# Altium footprint library FootPrintLib_2.PcbLib: 173 footprints (part 2 of 11)
Each footprint in its own frame and in the unit in brackets; x right, y up, seen from the top. Pads: shape width x height; smd on the part's side, far side on the other; paste and mask are expansions set on the pad; w line width, h text height; cw(c..) or ccw(c..) is an arc to the next point about the centre after c.
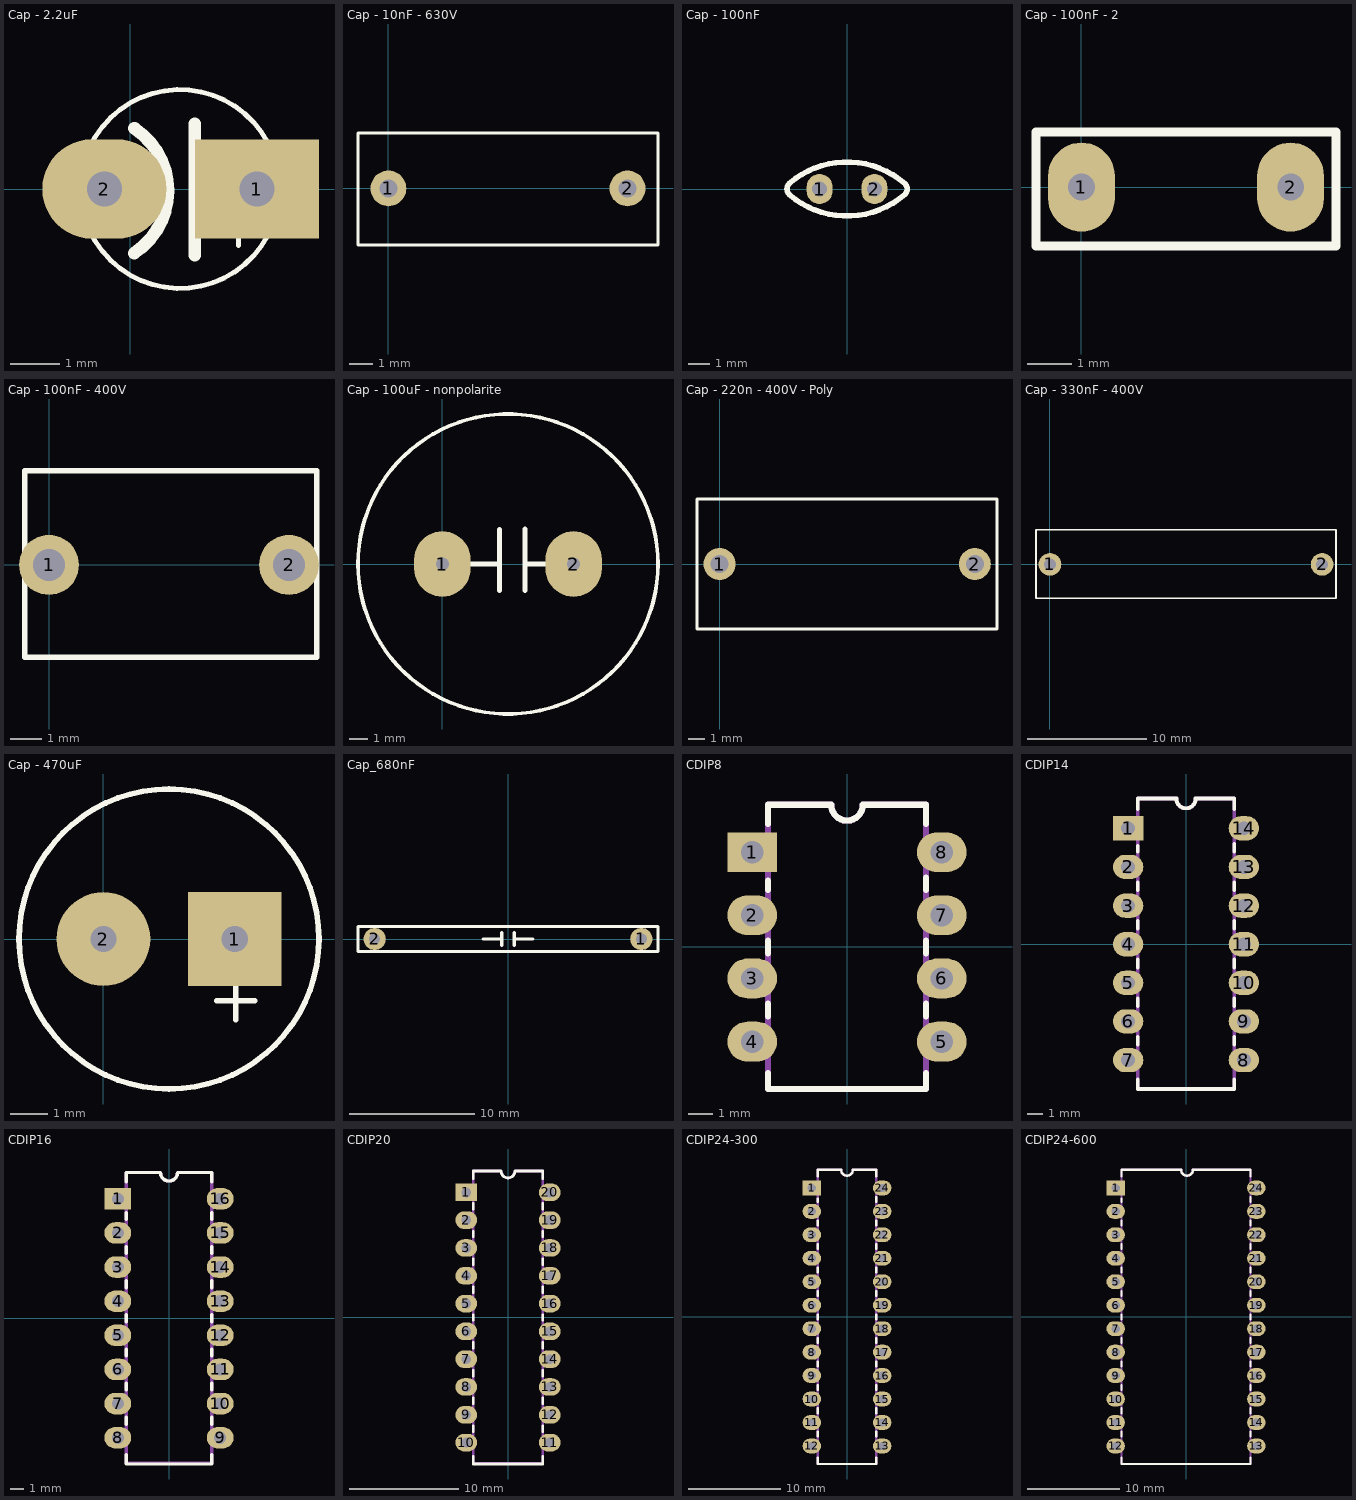
[diagram p1: the footprints below, top view; thin cyan lines are the x and y axes]

## Cap - 2.2uF [mm]
pads (2):
  rect 2.5x2 hole 0.7: 1(2.55,0)
  oval 2.5x2 hole 0.7: 2(-0.52,0)
Top Overlay:
  circle w0.1: c1,0 r2
  lines w0.1: 1.654,-0.72 2.67,-0.72 ; 2.18,-1.14 2.18,-0.29
  lines w0.254: -0.7,0 0.65,0 ; 0.08,-1.29 ccw(c-0.738,-0.033) 0.088,1.22 ; 1.3,-1.33 1.3,1.31 ; 1.38,0 2.72,0

## Cap - 10nF - 630V [mil] "Body: 13'mm, Pin: 10'mm"
pads (2):
  round 60 hole 30: 1(0,0) 2(400,0)
Top Overlay:
  lines w5: -50.97,-94.52 -50.97,92.52 451,92.52 451,-94.52 -50.97,-94.52
3D body "Cap 10n - 630V Poly_2009.STEP": height 480, standoff -68.11, extent -50.97,-94.52 451,92.52

## Cap - 100nF [mm]
pads (2):
  oval 1.2x1.4 hole 0.7: 1(-1.27,0) 2(1.27,0)
Top Overlay:
  lines w0.254: -2.688,-0.249 ccw(c0,2.849) 2.694,-0.243 ; -2.688,0.249 cw(c0,-2.849) 2.694,0.243 ; -2.682,-0.242 cw(c-2.44,0) -2.682,0.242 ; 2.692,-0.242 ccw(c2.451,0) 2.692,0.242
3D body "Cap 100n.STEP": height 6.92, standoff -1, extent -2.919,-0.864 2.919,0.833

## Cap - 100nF - 2 [mm] "7'mm"
height 5
pads (2):
  oval 1.5x2 hole 0.6: 1(0,0) 2(4.7,0)
Top Overlay:
  lines w0.2: -1.021,-1.328 5.72,-1.328 5.72,1.242 -1.021,1.242 -1.021,-1.328
3D body "cap.STEP": height 6.84, standoff -1.46, extent -0.75,-1.2 5.55,1.2

## Cap - 100nF - 400V [mil] "Body: 9'mm, Pin: 7.5'mm"
pads (2):
  round 75 hole 40: 1(0,0) 2(300,0)
Top Overlay:
  lines w7: -30.5,-115.39 -30.5,117.65 334.5,117.65 334.5,-115.39 -30.5,-115.39
3D body "Cap 100n - 400V Poly.STEP": height 460, standoff -88.11, extent -30.5,-115.39 334.5,117.65

## Cap - 100uF - nonpolarite [mm]
pads (2):
  oval 3x3.5 hole 0.7: 1(0,0) 2(7,0)
Top Overlay:
  circle w0.2: c3.5,0 r8
  lines w0.254: 0,0 1.87,0 3.04,0 3.05,-0.01 ; 3.05,-1.43 3.05,1.84 ; 4.41,-1.43 4.41,1.86 4.41,0.1 4.51,0 7,0

## Cap - 220n - 400V - Poly [mil] "Body: 18'mm, Pin: 15.5'mm"
pads (2):
  round 75 hole 42: 1(0,0) 2(600,0)
Top Overlay:
  lines w7: -53,-152.52 -53,152.52 652,152.52 652,-152.52 -53,-152.52
3D body "Cap 220n - 400V Poly.STEP": height 508.74, standoff -39.37, extent -53,-152.52 652,152.52

## Cap - 330nF - 400V [mil] "Body: 25'mm, Pin: 23'mm"
pads (2):
  round 75 hole 40: 1(0,0) 2(900,0)
Top Overlay:
  lines w5: -46.26,-112.21 945.87,-112.21 945.87,114.21 -46.26,114.21 -46.26,-112.21
3D body "Cap 330n - 400V Poly_2009.STEP": height 430, standoff -118.11, extent -18.04,-112.21 917,114.21

## Cap - 470uF [mm]
pads (2):
  rect 2.5x2.5 hole 0.7: 1(3.5,0)
  round 2.5 hole 0.7: 2(0,0)
Top Overlay:
  circle w0.15: c1.75,0 r4
  lines w0.15: 3.022,-1.65 4.038,-1.65 ; 3.53,-2.158 3.53,-1.142

## Cap_680nF [mil]
height 393.7
pads (2):
  round 70 hole 35: 1(420,0) 2(-420,0)
Top Overlay:
  lines w10: -78.74,0 -19.68,0 ; -19.68,-19.68 -19.68,19.68 ; 19.68,-19.68 19.68,19.68 ; 19.68,0 78.74,0 ; -472.44,-39.37 472.44,-39.37 472.44,39.37 -472.44,39.37 -472.44,-39.37
3D body "680nF.STEP": height 497.8, standoff -33.7, extent -472.13,-13.39 472.76,683.32

## CDIP8 [mm] "8-Pin Ceramic DIP (DD8) NARROW_(300mil width) - 100mil pitch"
height 5.08
pads (8):
  rect 2x1.6 hole 0.9: 1(-3.81,3.81)
  oval 2x1.6 hole 0.9: 2(-3.81,1.27) 3(-3.81,-1.27) 4(-3.81,-3.81) 5(3.81,-3.81) 6(3.81,-1.27) 7(3.81,1.27) 8(3.81,3.81)
Top Overlay:
  lines w0.254: -3.175,-5.08 -3.175,-5.715 3.175,-5.715 3.175,-5.08 ; -3.175,-2.794 -3.175,-2.286 ; -3.175,-0.254 -3.175,0.254 ; -3.175,2.286 -3.175,2.667 ; -3.175,4.953 -3.175,5.715 -0.635,5.715 ccw(c0,5.715) 0.635,5.715 3.175,5.715 3.175,4.953 ; 3.175,-2.794 3.175,-2.286 ; 3.175,-0.254 3.175,0.254 ; 3.175,2.286 3.175,2.794
Mechanical 1:
  lines w0.254: -3.175,-5.715 -3.175,5.715 -0.635,5.715 ccw(c0,5.715) 0.635,5.715 3.175,5.715 3.175,-5.715 -3.175,-5.715
3D body "DDIP08-300.STEP": height 4, standoff -2, extent -3.935,-5.715 3.935,5.715

## CDIP14 [mm] "14-Pin Ceramic DIP (DD14) NARROW_(300mil width) - 100mil pitch"
height 5.08
pads (14):
  rect 2x1.6 hole 0.9: 1(-3.81,7.62)
  oval 2x1.6 hole 0.9: 2(-3.81,5.08) 3(-3.81,2.54) 4(-3.81,0) 5(-3.81,-2.54) 6(-3.81,-5.08) 7(-3.81,-7.62) 8(3.81,-7.62) 9(3.81,-5.08) 10(3.81,-2.54) 11(3.81,0) 12(3.81,2.54) 13(3.81,5.08) 14(3.81,7.62)
Top Overlay:
  lines w0.254: -3.175,-8.89 -3.175,-9.525 3.175,-9.525 3.175,-8.89 ; -3.175,-6.604 -3.175,-6.096 ; -3.175,-4.064 -3.175,-3.556 ; -3.175,-1.524 -3.175,-1.016 ; -3.175,1.016 -3.175,1.524 ; -3.175,3.556 -3.175,4.064 ; -3.175,6.096 -3.175,6.477 ; -3.175,8.89 -3.175,9.576 -0.635,9.576 ccw(c0,9.576) 0.635,9.576 3.175,9.576 3.175,8.89 ; 3.175,-6.604 3.175,-6.096 ; 3.175,-4.064 3.175,-3.556 ; 3.175,-1.524 3.175,-1.016 ; 3.175,1.016 3.175,1.524 ; 3.175,3.556 3.175,4.064 ; 3.175,6.096 3.175,6.604
Mechanical 1:
  lines w0.254: -3.175,-9.525 3.175,-9.525 3.175,9.576 0.635,9.576 cw(c0,9.576) -0.635,9.576 -3.175,9.576 -3.175,-9.525
3D body "DDIP14-300.STEP": height 4, standoff -2, extent -3.935,-9.525 3.935,9.525

## CDIP16 [mm] "16-Pin Ceramic DIP (DD16) NARROW_(300mil width) - 100mil pitch"
height 5.08
pads (16):
  rect 2x1.6 hole 0.9: 1(-3.81,8.89)
  oval 2x1.6 hole 0.9: 2(-3.81,6.35) 3(-3.81,3.81) 4(-3.81,1.27) 5(-3.81,-1.27) 6(-3.81,-3.81) 7(-3.81,-6.35) 8(-3.81,-8.89) 9(3.81,-8.89) 10(3.81,-6.35) 11(3.81,-3.81) 12(3.81,-1.27) 13(3.81,1.27) 14(3.81,3.81) 15(3.81,6.35) 16(3.81,8.89)
Top Overlay:
  lines w0.254: -3.175,-10.16 -3.175,-10.846 3.175,-10.846 3.175,-10.16 ; -3.175,-7.874 -3.175,-7.366 ; -3.175,-5.334 -3.175,-4.826 ; -3.175,-2.794 -3.175,-2.286 ; -3.175,-0.254 -3.175,0.254 ; -3.175,2.286 -3.175,2.794 ; -3.175,4.826 -3.175,5.334 ; -3.175,7.366 -3.175,7.874 ; -3.175,10.16 -3.175,10.846 -0.635,10.846 ccw(c0,10.846) 0.635,10.846 3.175,10.846 3.175,10.16 ; 3.175,-7.874 3.175,-7.366 ; 3.175,-5.334 3.175,-4.826 ; 3.175,-2.794 3.175,-2.286 ; 3.175,-0.254 3.175,0.254 ; 3.175,2.286 3.175,2.794 ; 3.175,4.826 3.175,5.334 ; 3.175,7.366 3.175,7.874
Mechanical 1:
  lines w0.254: -3.175,-10.795 -3.175,10.846 -0.635,10.846 ccw(c0,10.846) 0.635,10.846 3.175,10.846 3.175,-10.795 -3.175,-10.795
3D body "DDIP16-300.STEP": height 4, standoff -2, extent -3.935,-10.795 3.935,10.795

## CDIP20 [mm] "20-Pin Ceramic DIP (DD20) NARROW_(300mil width) - 100mil pitch"
height 5.08
pads (20):
  rect 2x1.6 hole 0.9: 1(-3.81,11.43)
  oval 2x1.6 hole 0.9: 2(-3.81,8.89) 3(-3.81,6.35) 4(-3.81,3.81) 5(-3.81,1.27) 6(-3.81,-1.27) 7(-3.81,-3.81) 8(-3.81,-6.35) 9(-3.81,-8.89) 10(-3.81,-11.43) 11(3.81,-11.43) 12(3.81,-8.89) 13(3.81,-6.35) 14(3.81,-3.81) 15(3.81,-1.27) 16(3.81,1.27) 17(3.81,3.81) 18(3.81,6.35) 19(3.81,8.89) 20(3.81,11.43)
Top Overlay:
  lines w0.254: -3.175,-12.7 -3.175,-13.386 3.175,-13.386 3.175,-12.7 ; -3.175,-10.414 -3.175,-9.906 ; -3.175,-7.874 -3.175,-7.366 ; -3.175,-5.334 -3.175,-4.826 ; -3.175,-2.794 -3.175,-2.286 ; -3.175,-0.254 -3.175,0.254 ; -3.175,2.286 -3.175,2.794 ; -3.175,4.826 -3.175,5.334 ; -3.175,7.366 -3.175,7.874 ; -3.175,9.906 -3.175,10.414 ; -3.175,12.7 -3.175,13.386 -0.635,13.386 ccw(c0,13.386) 0.635,13.386 3.175,13.386 3.175,12.7 ; 3.175,-10.414 3.175,-9.906 ; 3.175,-7.874 3.175,-7.366 ; 3.175,-5.334 3.175,-4.826 ; 3.175,-2.794 3.175,-2.286 ; 3.175,-0.254 3.175,0.254 ; 3.175,2.286 3.175,2.794 ; 3.175,4.826 3.175,5.334 ; 3.175,7.366 3.175,7.874 ; 3.175,9.906 3.175,10.414
Mechanical 1:
  lines w0.254: -3.175,-13.335 -3.175,13.386 -0.635,13.386 ccw(c0,13.386) 0.635,13.386 3.175,13.386 3.175,-13.335 -3.175,-13.335
3D body "DDIP20-300.STEP": height 4, standoff -2, extent -3.935,-13.335 3.935,13.335

## CDIP24-300 [mm] "24-Pin Ceramic DIP (DD24) - NARROW_(300mil width) - 100mil pitch"
height 5.08
pads (24):
  rect 2x1.6 hole 0.9: 1(-3.81,13.97)
  oval 2x1.6 hole 0.9: 2(-3.81,11.43) 3(-3.81,8.89) 4(-3.81,6.35) 5(-3.81,3.81) 6(-3.81,1.27) 7(-3.81,-1.27) 8(-3.81,-3.81) 9(-3.81,-6.35) 10(-3.81,-8.89) 11(-3.81,-11.43) 12(-3.81,-13.97) 13(3.81,-13.97) 14(3.81,-11.43) 15(3.81,-8.89) 16(3.81,-6.35) 17(3.81,-3.81) 18(3.81,-1.27) 19(3.81,1.27) 20(3.81,3.81) 21(3.81,6.35) 22(3.81,8.89) 23(3.81,11.43) 24(3.81,13.97)
Top Overlay:
  lines w0.254: -3.175,-15.24 -3.175,-15.926 3.175,-15.926 3.175,-15.24 ; -3.175,-12.954 -3.175,-12.446 ; -3.175,-10.414 -3.175,-9.906 ; -3.175,-7.874 -3.175,-7.366 ; -3.175,-5.334 -3.175,-4.826 ; -3.175,-2.794 -3.175,-2.286 ; -3.175,-0.254 -3.175,0.254 ; -3.175,2.286 -3.175,2.794 ; -3.175,4.826 -3.175,5.334 ; -3.175,7.366 -3.175,7.874 ; -3.175,9.906 -3.175,10.414 ; -3.175,12.446 -3.175,12.827 ; -3.175,15.24 -3.175,15.926 -0.635,15.926 ccw(c0,15.926) 0.635,15.926 3.175,15.926 3.175,15.24 ; 3.175,-12.954 3.175,-12.446 ; 3.175,-10.414 3.175,-9.906 ; 3.175,-7.874 3.175,-7.366 ; 3.175,-5.334 3.175,-4.826 ; 3.175,-2.794 3.175,-2.286 ; 3.175,-0.254 3.175,0.254 ; 3.175,2.286 3.175,2.794 ; 3.175,4.826 3.175,5.334 ; 3.175,7.366 3.175,7.874 ; 3.175,9.906 3.175,10.414 ; 3.175,12.446 3.175,12.954
Mechanical 1:
  lines w0.254: -3.175,-15.926 -3.175,15.926 -0.635,15.926 ccw(c0,15.926) 0.635,15.926 3.175,15.926 3.175,-15.926 -3.175,-15.926
3D body "DDIP24-300.STEP": height 4, standoff -2, extent -3.935,-15.875 3.935,15.875

## CDIP24-600 [mm] "24-Pin Ceramic DIP (DD24) - WIDE_(600mil width) - 100mil pitch"
height 5.08
pads (24):
  rect 2x1.6 hole 0.9: 1(-7.62,13.97)
  oval 2x1.6 hole 0.9: 2(-7.62,11.43) 3(-7.62,8.89) 4(-7.62,6.35) 5(-7.62,3.81) 6(-7.62,1.27) 7(-7.62,-1.27) 8(-7.62,-3.81) 9(-7.62,-6.35) 10(-7.62,-8.89) 11(-7.62,-11.43) 12(-7.62,-13.97) 13(7.62,-13.97) 14(7.62,-11.43) 15(7.62,-8.89) 16(7.62,-6.35) 17(7.62,-3.81) 18(7.62,-1.27) 19(7.62,1.27) 20(7.62,3.81) 21(7.62,6.35) 22(7.62,8.89) 23(7.62,11.43) 24(7.62,13.97)
Top Overlay:
  lines w0.254: -6.985,-15.24 -6.985,-15.926 6.985,-15.926 6.985,-15.24 ; -6.985,-12.954 -6.985,-12.446 ; -6.985,-10.414 -6.985,-9.906 ; -6.985,-7.874 -6.985,-7.366 ; -6.985,-5.334 -6.985,-4.826 ; -6.985,-2.794 -6.985,-2.286 ; -6.985,-0.254 -6.985,0.254 ; -6.985,2.286 -6.985,2.794 ; -6.985,4.826 -6.985,5.334 ; -6.985,7.366 -6.985,7.874 ; -6.985,9.906 -6.985,10.414 ; -6.985,12.446 -6.985,12.827 ; -6.985,15.24 -6.985,15.926 -0.545,15.926 ; -0.521,15.925 ccw(c0.114,15.925) 0.749,15.925 6.985,15.926 6.985,15.24 ; 6.985,-12.954 6.985,-12.446 ; 6.985,-10.414 6.985,-9.906 ; 6.985,-7.874 6.985,-7.366 ; 6.985,-5.334 6.985,-4.826 ; 6.985,-2.794 6.985,-2.286 ; 6.985,-0.254 6.985,0.254 ; 6.985,2.286 6.985,2.794 ; 6.985,4.826 6.985,5.334 ; 6.985,7.366 6.985,7.874 ; 6.985,9.906 6.985,10.414 ; 6.985,12.446 6.985,12.954
Mechanical 1:
  lines w0.254: -0.545,15.926 -6.985,15.926 -6.985,-15.926 6.985,-15.926 6.985,15.926 0.749,15.926 cw(c0.114,15.925) -0.521,15.925
3D body "DDIP24-600.STEP": height 4, standoff -2, extent -7.745,-15.875 7.745,15.875